# EAGLE library part DB9 (library work)
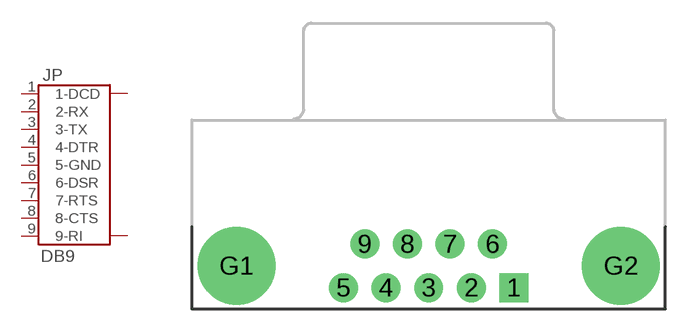
[diagram p1: symbol with the pads of DB9; footprint DB9]

Designator prefix JP

## DB9  [DB9]
1  1-DCD
2  2-RX
3  3-TX
4  4-DTR
5  5-GND
6  6-DSR
7  7-RTS
8  8-CTS
9  9-RI
G1  SHIELD1
G2  SHIELD2

## Footprint DB9 (pad centres in mm)
drill 1.016 pad 1.88 square: 1 5.54,-7.77
drill 1.016 pad 1.88: 2 2.77,-7.77; 3 0,-7.77; 4 -2.77,-7.77; 5 -5.54,-7.77; 6 4.15,-4.93; 7 1.38,-4.93; 8 -1.38,-4.93; 9 -4.15,-4.93
drill 3.302 pad 5.08: G1 -12.5,-6.35; G2 12.5,-6.35